# Altium footprint library con-ptr500.PCBLIB: 34 footprints (part 1 of 3)
Each footprint in its own frame and in the unit in brackets; x right, y up, seen from the top. Pads: shape width x height; smd on the part's side, far side on the other; paste and mask are expansions set on the pad; w line width, h text height; cw(c..) or ccw(c..) is an arc to the next point about the centre after c.
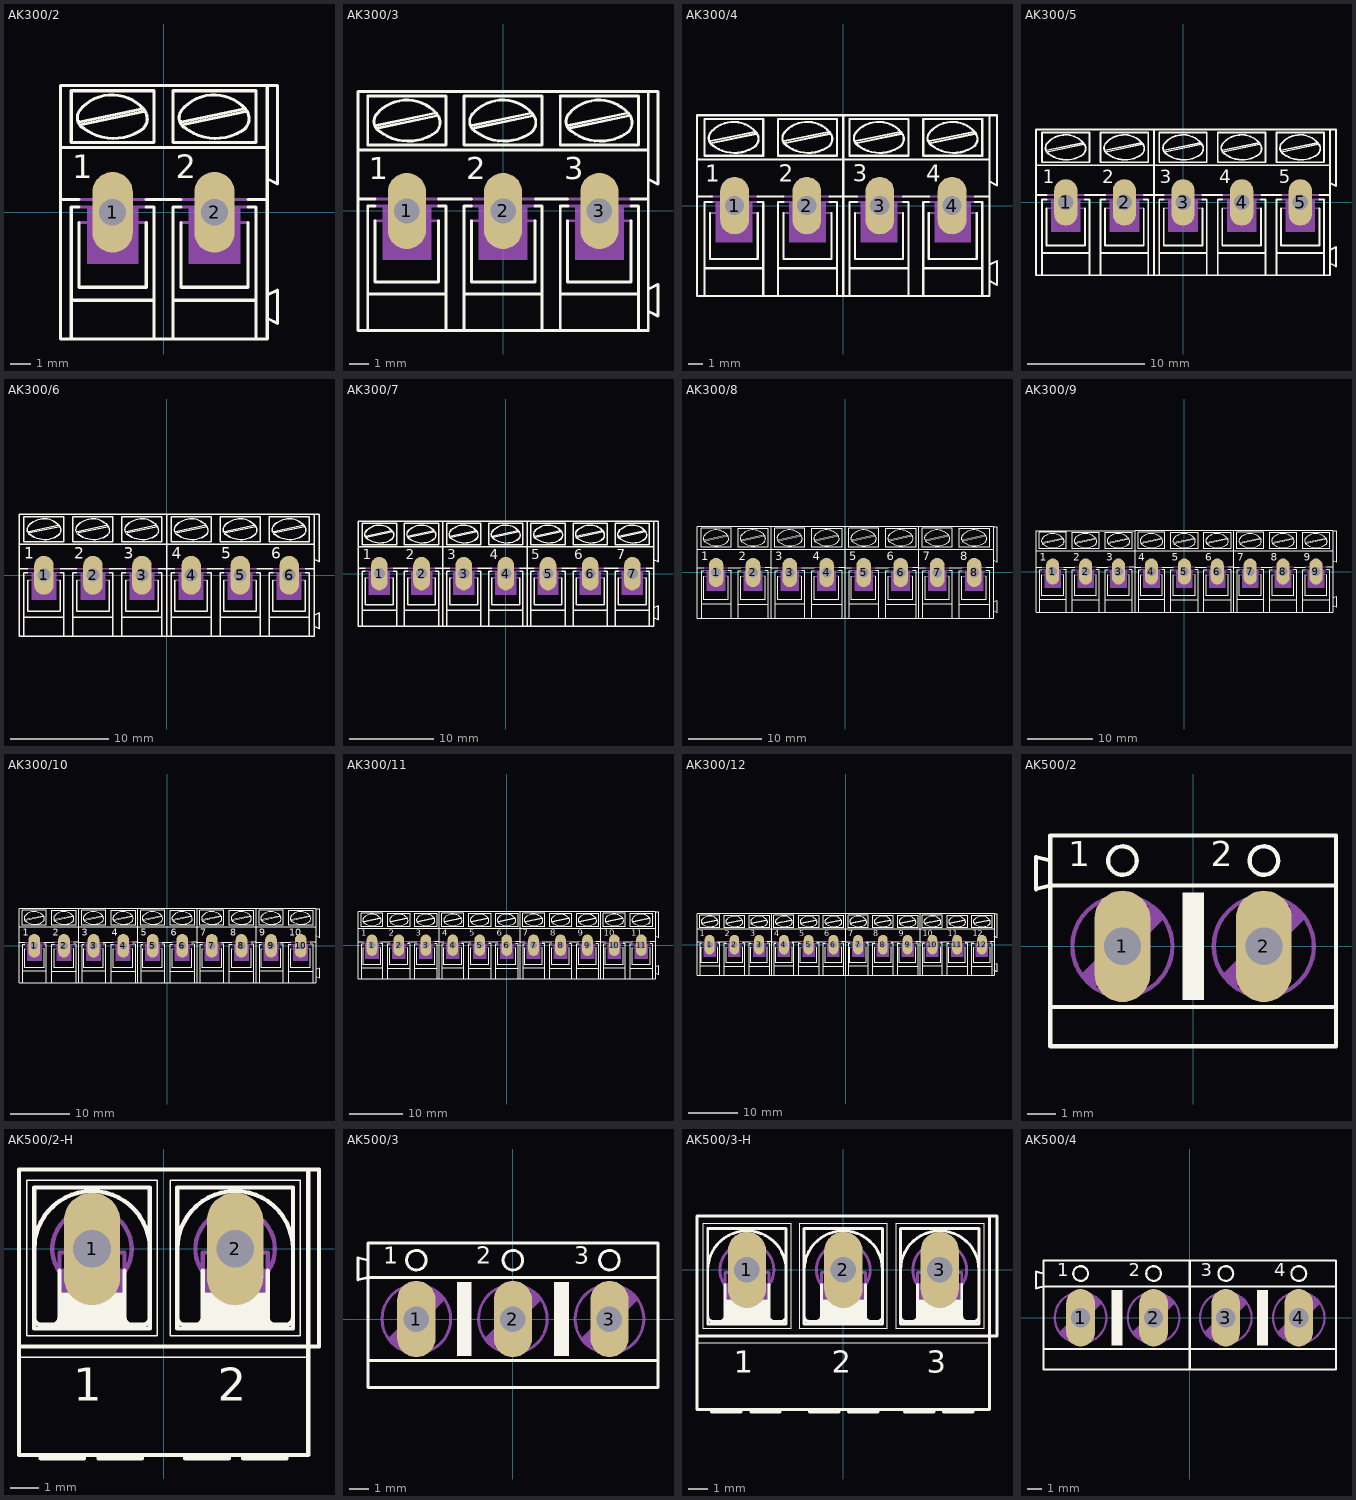
[diagram p0: the footprints below, top view; thin cyan lines are the x and y axes]

## AK300/2 [mil]
pads (2):
  oval 78x156 hole 52: 1(-99,0) 2(98,0)
Top Overlay:
  lines w6: -164,-20 -164,-145 -34,-145 -34,-20 ; -164,10 -179,10 -179,-170 ; -164,25 -200,25 ; -163,175 -43,200 ; -163,197 cw(c-99.99,146) -38.81,199.17 ; -161,199 ccw(c-144,183) -155.34,162.59 ; -158,170 -38,195 ; -157,164 ccw(c-97,239) -39.37,162.16 ; -41.2,160.82 ccw(c-59,181) -39,199 ; -34,10 -19,10 -19,-170 ; -34,25 33,25 ; 33,-20 33,-145 163,-145 163,-20 ; 33,10 18,10 18,-170 ; 34,175 154,200 ; 34,197 cw(c97,146) 158.18,199.16 ; 36,199 ccw(c53,183) 41.66,162.59 ; 39,170 159,195 ; 40,164 ccw(c100,239) 157.63,162.16 ; 155.8,160.82 ccw(c138,181) 158,199 ; 163,10 178,10 178,-170 ; 163,25 200,25 ; -200,25 -200,-245 -179,-245 ; -200,25 -200,125 ; -200,125 200,125 ; -200,125 -200,245 200,245 ; -179,-245 -19,-245 ; -179,-245 -179,-170 ; -179,-170 -19,-170 ; -19,-245 -19,-170 ; -19,-245 18,-245 ; 18,-245 18,-170 ; 18,-245 178,-245 ; 18,-170 178,-170 ; 178,-245 200,-245 200,-205 ; 178,-245 178,-170 ; 200,-205 220,-215 220,-150 200,-160 ; 200,-205 200,-160 ; 200,-160 200,25 ; 200,25 200,65 ; 200,65 220,55 220,245 200,245 ; 200,65 200,125 ; 200,125 200,245 ; -179,135 -19,135 -19,235 -179,235 -179,135 ; 18,135 18,235 178,235 178,135 18,135
  text "1" at -177,50 h77.5
  text "2" at 23,50 h77.5
Mechanical 16:
  rectangle: -149,-100 -49,10
  rectangle: 48,-100 148,10
  lines w6: -164,-20 -149,-20 ; -164,10 -34,10 ; -164,25 -34,25 ; -49,-20 -34,-20 ; 33,-20 48,-20 ; 33,10 163,10 ; 33,25 163,25 ; 148,-20 163,-20

## AK300/3 [mil]
pads (3):
  oval 78x156 hole 52: 1(-197,0) 2(0,0) 3(197,0)
Top Overlay:
  lines w6: -262,-20 -262,-145 -132,-145 -132,-20 ; -262,10 -277,10 -277,-170 ; -262,25 -297,25 ; -260,175 -140,200 ; -260,197 cw(c-196.99,146) -135.81,199.17 ; -258,199 ccw(c-241,183) -252.34,162.59 ; -255,170 -135,195 ; -254,164 ccw(c-194,239) -136.37,162.16 ; -138.2,160.82 ccw(c-156,181) -136,199 ; -132,10 -117,10 -117,-170 ; -132,25 -65,25 ; -65,-20 -65,-145 65,-145 65,-20 ; -65,10 -80,10 -80,-170 ; -64,175 56,200 ; -64,197 cw(c-0.99,146) 60.19,199.17 ; -62,199 ccw(c-45,183) -56.34,162.59 ; -59,170 61,195 ; -58,164 ccw(c2,239) 59.63,162.16 ; 57.8,160.82 ccw(c40,181) 60,199 ; 65,10 80,10 80,-170 ; 66,25 132,25 ; 132,-20 132,-145 262,-145 262,-20 ; 133,10 117,10 117,-170 ; 133,175 253,200 ; 133,197 cw(c196,146) 257.18,199.16 ; 135,199 ccw(c152,183) 140.66,162.59 ; 138,170 258,195 ; 139,164 ccw(c199,239) 256.63,162.16 ; 254.8,160.82 ccw(c237,181) 257,199 ; 262,10 277,10 277,-170 ; 262,25 297,25 ; -297,25 -297,-245 -277,-245 ; -297,25 -297,125 ; -297,125 297,125 ; -297,125 -297,245 297,245 ; -277,-245 -117,-245 ; -277,-245 -277,-170 ; -277,-170 -117,-170 ; -117,-245 -117,-170 ; -117,-245 -80,-245 ; -80,-245 -80,-170 ; -80,-245 80,-245 ; -80,-170 80,-170 ; 80,-245 117,-245 ; 80,-245 80,-170 ; 117,-245 117,-170 ; 117,-245 277,-245 ; 117,-170 277,-170 ; 277,-245 297,-245 297,-205 ; 277,-245 277,-170 ; 297,-205 317,-215 317,-150 297,-160 ; 297,-205 297,-160 ; 297,-160 297,25 ; 297,25 297,65 ; 297,65 317,55 317,245 297,245 ; 297,65 297,125 ; 297,125 297,245 ; -277,135 -117,135 -117,235 -277,235 -277,135 ; -80,135 -80,235 80,235 80,135 -80,135 ; 117,135 117,235 277,235 277,135 117,135
  text "1" at -275,50 h77.5
  text "2" at -75,50 h77.5
  text "3" at 125,50 h77.5
Mechanical 16:
  rectangle: -247,-100 -147,10
  rectangle: -50,-100 50,10
  rectangle: 147,-100 247,10
  lines w6: -262,-20 -247,-20 ; -262,10 -132,10 ; -262,25 -132,25 ; -147,-20 -132,-20 ; -65,-20 -50,-20 ; -65,10 65,10 ; -65,25 65,25 ; 50,-20 65,-20 ; 132,-20 146,-20 ; 133,10 262,10 ; 133,25 262,25 ; 247,-20 262,-20

## AK300/4 [mil]
pads (4):
  oval 78x156 hole 52: 1(-295,0) 2(-99,0) 3(99,0) 4(295,0)
Top Overlay:
  lines w6: -362,-20 -362,-145 -232,-145 -232,-20 ; -361,175 -241,200 ; -361,197 cw(c-297.99,146) -236.81,199.17 ; -359,199 ccw(c-342,183) -353.34,162.59 ; -357,10 -377,10 -377,-170 ; -357,25 -397,25 ; -356,170 -236,195 ; -355,164 ccw(c-295,239) -237.37,162.16 ; -239.2,160.82 ccw(c-257,181) -237,199 ; -232,10 -217,10 -217,-170 ; -232,25 -162,25 ; -162,-20 -162,-145 -32,-145 -32,-20 ; -162,10 -177,10 -177,-170 ; -161,175 -41,200 ; -161,197 cw(c-97.99,146) -36.81,199.17 ; -159,199 ccw(c-142,183) -153.34,162.59 ; -156,170 -36,195 ; -155,164 ccw(c-95,239) -37.37,162.16 ; -39.2,160.82 ccw(c-57,181) -37,199 ; -37,10 -17,10 -17,-170 ; -37,25 0,25 ; 32,-20 32,-145 162,-145 162,-20 ; 33,175 153,200 ; 33,197 cw(c96,146) 157.18,199.16 ; 35,199 ccw(c52,183) 40.66,162.59 ; 37,10 17,10 17,-170 ; 37,25 0,25 ; 38,170 158,195 ; 39,164 ccw(c99,239) 156.63,162.16 ; 154.8,160.82 ccw(c137,181) 157,199 ; 162,10 177,10 177,-170 ; 162,25 232,25 ; 232,-20 232,-145 362,-145 362,-20 ; 232,10 217,10 217,-170 ; 233,175 353,200 ; 233,197 cw(c296,146) 357.18,199.16 ; 235,199 ccw(c252,183) 240.66,162.59 ; 238,170 358,195 ; 239,164 ccw(c299,239) 356.63,162.16 ; 354.8,160.82 ccw(c337,181) 357,199 ; 357,10 377,10 377,-170 ; 357,25 397,25 ; -397,25 -397,-245 -377,-245 ; -397,25 -397,125 ; -397,125 0,125 ; -397,125 -397,245 0,245 ; -377,-245 -217,-245 ; -377,-245 -377,-170 ; -377,-170 -217,-170 ; -217,-245 -217,-170 ; -217,-245 -177,-245 ; -177,-245 -177,-170 ; -177,-245 -17,-245 ; -177,-170 -17,-170 ; -17,-245 0,-245 ; -17,-245 -17,-170 ; 0,-245 0,25 ; 0,-245 17,-245 ; 0,25 0,125 ; 0,125 397,125 ; 0,125 0,245 ; 0,245 397,245 ; 17,-245 177,-245 ; 17,-245 17,-170 ; 17,-170 177,-170 ; 177,-245 177,-170 ; 177,-245 217,-245 ; 217,-245 217,-170 ; 217,-245 377,-245 ; 217,-170 377,-170 ; 377,-245 397,-245 397,-205 ; 377,-245 377,-170 ; 397,-205 417,-215 417,-150 397,-160 ; 397,-205 397,-160 ; 397,-160 397,25 ; 397,25 397,65 ; 397,65 417,55 417,245 397,245 ; 397,65 397,125 ; 397,125 397,245 ; -377,135 -217,135 -217,235 -377,235 -377,135 ; -177,135 -177,235 -17,235 -17,135 -177,135 ; 17,135 177,135 177,235 17,235 17,135 ; 217,135 217,235 377,235 377,135 217,135
  text "1" at -375,50 h77.5
  text "2" at -175,50 h77.5
  text "3" at 25,50 h77.5
  text "4" at 225,50 h77.5
Mechanical 16:
  rectangle: -347,-100 -247,10
  rectangle: -147,-100 -47,10
  rectangle: 47,-100 147,10
  rectangle: 247,-100 347,10
  lines w6: -362,-20 -347,-20 ; -357,10 -232,10 ; -357,25 -232,25 ; -247,-20 -232,-20 ; -162,-20 -147,-20 ; -162,10 -37,10 ; -162,25 -37,25 ; -47,-20 -32,-20 ; 32,-20 47,-20 ; 37,10 162,10 ; 37,25 162,25 ; 147,-20 162,-20 ; 232,-20 247,-20 ; 232,10 357,10 ; 232,25 357,25 ; 347,-20 362,-20

## AK300/5 [mil]
pads (5):
  oval 78x156 hole 52: 1(-394,0) 2(-197,0) 3(0,0) 4(197,0) 5(394,0)
Top Overlay:
  lines w6: -459,-20 -459,-145 -329,-145 -329,-20 ; -459,10 -474,10 -474,-170 ; -459,25 -494,25 ; -458,175 -338,200 ; -458,197 cw(c-394.99,146) -333.81,199.17 ; -456,199 ccw(c-439,183) -450.34,162.59 ; -453,170 -333,195 ; -452,164 ccw(c-392,239) -334.37,162.16 ; -336.2,160.82 ccw(c-354,181) -334,199 ; -329,10 -314,10 -314,-170 ; -329,25 -262,25 ; -262,-20 -262,-145 -132,-145 -132,-20 ; -262,10 -277,10 -277,-170 ; -261,175 -141,200 ; -261,197 cw(c-197.99,146) -136.81,199.17 ; -259,199 ccw(c-242,183) -253.34,162.59 ; -256,170 -136,195 ; -255,164 ccw(c-195,239) -137.37,162.16 ; -139.2,160.82 ccw(c-157,181) -137,199 ; -132,10 -117,10 -117,-170 ; -132,25 -98,25 ; -65,-20 -65,-145 65,-145 65,-20 ; -65,10 -80,10 -80,-170 ; -65,25 -98,25 ; -63,175 57,200 ; -63,197 cw(c0,146) 61.19,199.16 ; -61,199 ccw(c-44,183) -55.34,162.59 ; -58,170 62,195 ; -57,164 ccw(c3,239) 60.63,162.16 ; 58.8,160.82 ccw(c41,181) 61,199 ; 65,10 80,10 80,-170 ; 65,25 132,25 ; 132,-20 132,-145 262,-145 262,-20 ; 132,10 117,10 117,-170 ; 133,175 253,200 ; 133,197 cw(c196,146) 257.18,199.16 ; 135,199 ccw(c152,183) 140.66,162.59 ; 138,170 258,195 ; 139,164 ccw(c199,239) 256.63,162.16 ; 254.8,160.82 ccw(c237,181) 257,199 ; 262,10 277,10 277,-170 ; 263,25 329,25 ; 329,-20 329,-145 459,-145 459,-20 ; 330,10 314,10 314,-170 ; 330,175 450,200 ; 330,197 cw(c393,146) 454.18,199.16 ; 332,199 ccw(c349,183) 337.66,162.59 ; 335,170 455,195 ; 336,164 ccw(c396,239) 453.63,162.16 ; 451.8,160.82 ccw(c434,181) 454,199 ; 459,10 474,10 474,-170 ; 459,25 494,25 ; -494,25 -494,-245 -474,-245 ; -494,25 -494,125 ; -494,125 -98,125 ; -494,125 -494,245 -98,245 ; -474,-245 -314,-245 ; -474,-245 -474,-170 ; -474,-170 -314,-170 ; -314,-245 -314,-170 ; -314,-245 -277,-245 ; -277,-245 -277,-170 ; -277,-245 -117,-245 ; -277,-170 -117,-170 ; -117,-245 -117,-170 ; -117,-245 -98,-245 ; -98,-245 -98,25 ; -98,-245 -80,-245 ; -98,25 -98,125 ; -98,125 -98,245 ; -98,125 494,125 ; -98,245 494,245 ; -80,-245 80,-245 ; -80,-245 -80,-170 ; -80,-170 80,-170 ; 80,-245 80,-170 ; 80,-245 117,-245 ; 117,-245 117,-170 ; 117,-245 277,-245 ; 117,-170 277,-170 ; 277,-245 314,-245 ; 277,-245 277,-170 ; 314,-245 314,-170 ; 314,-245 474,-245 ; 314,-170 474,-170 ; 474,-245 494,-245 494,-205 ; 474,-245 474,-170 ; 494,-205 514,-215 514,-150 494,-160 ; 494,-205 494,-160 ; 494,-160 494,25 ; 494,25 494,65 ; 494,65 514,55 514,245 494,245 ; 494,65 494,125 ; 494,125 494,245 ; -474,135 -314,135 -314,235 -474,235 -474,135 ; -277,135 -277,235 -117,235 -117,135 -277,135 ; -80,135 80,135 80,235 -80,235 -80,135 ; 117,135 117,235 277,235 277,135 117,135 ; 314,135 314,235 474,235 474,135 314,135
  text "1" at -472,50 h77.5
  text "2" at -272,50 h77.5
  text "3" at -78,50 h77.5
  text "4" at 122,50 h77.5
  text "5" at 322,50 h77.5
Mechanical 16:
  rectangle: -444,-100 -344,10
  rectangle: -247,-100 -147,10
  rectangle: -50,-100 50,10
  rectangle: 147,-100 247,10
  rectangle: 344,-100 444,10
  lines w6: -459,-20 -444,-20 ; -459,10 -329,10 ; -459,25 -329,25 ; -344,-20 -329,-20 ; -262,-20 -247,-20 ; -262,10 -132,10 ; -262,25 -132,25 ; -147,-20 -132,-20 ; -65,-20 -50,-20 ; -65,10 65,10 ; -65,25 65,25 ; 50,-20 65,-20 ; 132,-20 147,-20 ; 132,10 262,10 ; 132,25 262,25 ; 247,-20 262,-20 ; 329,-20 343,-20 ; 330,10 459,10 ; 330,25 459,25 ; 444,-20 459,-20

## AK300/6 [mil]
pads (6):
  oval 78x156 hole 52: 1(-493,0) 2(-296,0) 3(-99,0) 4(99,0) 5(296,0) 6(493,0)
Top Overlay:
  drawing of 164 lines, arcs and shapes, not listed
  text "1" at -571,50 h77.5
  text "2" at -371,50 h77.5
  text "3" at -171,50 h77.5
  text "6" at 421,50 h77.5
  text "5" at 221,50 h77.5
  text "4" at 21,50 h77.5
Mechanical 16:
  rectangle: -543,-100 -443,10
  rectangle: -346,-100 -246,10
  rectangle: -149,-100 -49,10
  rectangle: 49,-100 149,10
  rectangle: 246,-100 346,10
  rectangle: 443,-100 543,10
  lines w6: -558,-20 -543,-20 ; -558,10 -428,10 ; -558,25 -428,25 ; -443,-20 -428,-20 ; -361,-20 -346,-20 ; -361,10 -231,10 ; -361,25 -231,25 ; -246,-20 -231,-20 ; -164,-20 -150,-20 ; -163,10 -34,10 ; -163,25 -34,25 ; -49,-20 -34,-20 ; 34,-20 49,-20 ; 34,10 164,10 ; 34,25 164,25 ; 149,-20 164,-20 ; 231,-20 246,-20 ; 231,10 361,10 ; 231,25 361,25 ; 346,-20 361,-20 ; 428,-20 442,-20 ; 429,10 558,10 ; 429,25 558,25 ; 543,-20 558,-20

## AK300/7 [mil]
pads (7):
  oval 78x156 hole 52: 1(-591,0) 2(-394,0) 3(-197,0) 4(0,0) 5(197,0) 6(394,0) 7(591,0)
Top Overlay:
  drawing of 194 lines, arcs and shapes, not listed
  text "1" at -669,50 h77.5
  text "2" at -469,50 h77.5
  text "3" at -275,50 h77.5
  text "4" at -75,50 h77.5
  text "5" at 119,50 h77.5
  text "6" at 319,50 h77.5
  text "7" at 519,50 h77.5
Mechanical 16:
  rectangle: 147,-100 247,10
  rectangle: 344,-100 444,10
  rectangle: 541,-100 641,10
  rectangle: -247,-100 -147,10
  rectangle: -50,-100 50,10
  rectangle: -641,-100 -541,10
  rectangle: -444,-100 -344,10
  lines w6: -656,-20 -641,-20 ; -656,10 -526,10 ; -656,25 -526,25 ; -541,-20 -526,-20 ; -459,-20 -444,-20 ; -459,10 -329,10 ; -459,25 -329,25 ; -344,-20 -329,-20 ; -262,-20 -247,-20 ; -262,10 -132,10 ; -262,25 -132,25 ; -147,-20 -132,-20 ; -65,-20 -50,-20 ; -65,10 65,10 ; -65,25 65,25 ; 50,-20 65,-20 ; 132,-20 147,-20 ; 132,10 262,10 ; 132,25 262,25 ; 247,-20 262,-20 ; 329,-20 344,-20 ; 329,10 459,10 ; 329,25 459,25 ; 444,-20 459,-20 ; 526,-20 540,-20 ; 527,10 656,10 ; 527,25 656,25 ; 641,-20 656,-20

## AK300/8 [mil]
pads (8):
  oval 78x156 hole 52: 1(-689,0) 2(-492,0) 3(-296,0) 4(-99,0) 5(99,0) 6(296,0) 7(492,0) 8(689,0)
Top Overlay:
  drawing of 224 lines, arcs and shapes, not listed
  text "1" at -767,50 h77.5
  text "2" at -567,50 h77.5
  text "3" at -374,50 h77.5
  text "4" at -174,50 h77.5
  text "5" at 21,50 h77.5
  text "6" at 221,50 h77.5
  text "7" at 414,50 h77.5
  text "8" at 614,50 h77.5
Mechanical 16:
  rectangle: -739,-100 -639,10
  rectangle: -542,-100 -442,10
  rectangle: -346,-100 -246,10
  rectangle: -149,-100 -49,10
  rectangle: 49,-100 149,10
  rectangle: 246,-100 346,10
  rectangle: 442,-100 542,10
  rectangle: 639,-100 739,10
  lines w6: -754,-20 -739,-20 ; -754,10 -624,10 ; -754,25 -624,25 ; -639,-20 -624,-20 ; -557,-20 -542,-20 ; -557,10 -427,10 ; -557,25 -427,25 ; -442,-20 -427,-20 ; -361,-20 -346,-20 ; -361,10 -231,10 ; -361,25 -231,25 ; -246,-20 -231,-20 ; -164,-20 -149,-20 ; -164,10 -34,10 ; -164,25 -34,25 ; -49,-20 -34,-20 ; 34,-20 49,-20 ; 34,10 164,10 ; 34,25 164,25 ; 149,-20 164,-20 ; 231,-20 246,-20 ; 231,10 361,10 ; 231,25 361,25 ; 346,-20 361,-20 ; 427,-20 442,-20 ; 427,10 557,10 ; 427,25 557,25 ; 542,-20 557,-20 ; 624,-20 639,-20 ; 624,10 754,10 ; 624,25 754,25 ; 739,-20 754,-20

## AK300/9 [mil]
pads (9):
  oval 78x156 hole 52: 1(-788,0) 2(-591,0) 3(-394,0) 4(-197,0) 5(0,0) 6(197,0) 7(394,0) 8(591,0) 9(788,0)
Top Overlay:
  drawing of 240 lines, arcs and shapes, not listed
  text "1" at -866,50 h77.5
  text "2" at -666,50 h77.5
  text "3" at -466,50 h77.5
  text "9" at 716,50 h77.5
  text "8" at 516,50 h77.5
  text "7" at 316,50 h77.5
  text "6" at 125,50 h77.5
  text "5" at -75,50 h77.5
  text "4" at -275,50 h77.5
Mechanical 16:
  rectangle: -838,-100 -738,10
  rectangle: -641,-100 -541,10
  rectangle: -444,-100 -344,10
  rectangle: -247,-100 -147,10
  rectangle: -50,-100 50,10
  rectangle: 147,-100 247,10
  rectangle: 344,-100 444,10
  rectangle: 541,-100 641,10
  rectangle: 738,-100 838,10
  lines w6: -853,-20 -838,-20 ; -853,10 -723,10 ; -853,25 -723,25 ; -738,-20 -723,-20 ; -656,-20 -641,-20 ; -656,10 -526,10 ; -656,25 -526,25 ; -541,-20 -526,-20 ; -459,-20 -445,-20 ; -458,10 -329,10 ; -458,25 -329,25 ; -344,-20 -329,-20 ; -262,-20 -247,-20 ; -262,10 -132,10 ; -262,25 -132,25 ; -147,-20 -132,-20 ; -65,-20 -50,-20 ; -65,10 65,10 ; -65,25 65,25 ; 50,-20 65,-20 ; 132,-20 146,-20 ; 133,10 262,10 ; 133,25 262,25 ; 247,-20 262,-20 ; 329,-20 344,-20 ; 329,10 459,10 ; 329,25 459,25 ; 444,-20 459,-20 ; 526,-20 541,-20 ; 526,10 656,10 ; 526,25 656,25 ; 641,-20 656,-20 ; 723,-20 737,-20 ; 724,10 853,10 ; 724,25 853,25 ; 838,-20 853,-20

## AK300/10 [mil]
pads (10):
  oval 78x156 hole 52: 1(-886,0) 2(-689,0) 3(-492,0) 4(-295,0) 5(-99,0) 6(98,0) 7(295,0) 8(492,0) 9(689,0) 10(886,0)
Top Overlay:
  drawing of 277 lines, arcs and shapes, not listed
  text "1" at -964,50 h77.5
  text "2" at -764,50 h77.5
  text "3" at -570,50 h77.5
  text "4" at -370,50 h77.5
  text "5" at -177,50 h77.5
  text "6" at 23,50 h77.5
  text "7" at 217,50 h77.5
  text "8" at 417,50 h77.5
  text "9" at 611,50 h77.5
  text "10" at 811,50 h77.5
Mechanical 16:
  rectangle: -936,-100 -836,10
  rectangle: -739,-100 -639,10
  rectangle: -542,-100 -442,10
  rectangle: -345,-100 -245,10
  rectangle: -149,-100 -49,10
  rectangle: 48,-100 148,10
  rectangle: 245,-100 345,10
  rectangle: 442,-100 542,10
  rectangle: 639,-100 739,10
  rectangle: 836,-100 936,10
  lines w6: -951,-20 -936,-20 ; -951,10 -821,10 ; -951,25 -821,25 ; -836,-20 -821,-20 ; -754,-20 -739,-20 ; -754,10 -624,10 ; -754,25 -624,25 ; -639,-20 -624,-20 ; -557,-20 -542,-20 ; -557,10 -427,10 ; -557,25 -427,25 ; -442,-20 -427,-20 ; -360,-20 -345,-20 ; -360,10 -230,10 ; -360,25 -230,25 ; -245,-20 -230,-20 ; -164,-20 -149,-20 ; -164,10 -34,10 ; -164,25 -34,25 ; -49,-20 -34,-20 ; 33,-20 48,-20 ; 33,10 163,10 ; 33,25 163,25 ; 148,-20 163,-20 ; 230,-20 245,-20 ; 230,10 360,10 ; 230,25 360,25 ; 345,-20 360,-20 ; 427,-20 442,-20 ; 427,10 557,10 ; 427,25 557,25 ; 542,-20 557,-20 ; 624,-20 639,-20 ; 624,10 754,10 ; 624,25 754,25 ; 739,-20 754,-20 ; 821,-20 836,-20 ; 821,10 951,10 ; 821,25 951,25 ; 936,-20 951,-20

## AK300/11 [mil]
pads (11):
  oval 78x156 hole 52: 1(-985,0) 2(-788,0) 3(-591,0) 4(-394,0) 5(-197,0) 6(0,0) 7(197,0) 8(394,0) 9(591,0) 10(788,0) 11(985,0)
Top Overlay:
  drawing of 293 lines, arcs and shapes, not listed
  text "1" at -1063,50 h77.5
  text "2" at -863,50 h77.5
  text "3" at -663,50 h77.5
  text "4" at -472,50 h77.5
  text "5" at -272,50 h77.5
  text "6" at -72,50 h77.5
  text "7" at 119,50 h77.5
  text "8" at 319,50 h77.5
  text "9" at 519,50 h77.5
  text "10" at 710,50 h77.5
  text "11" at 910,50 h77.5
Mechanical 16:
  rectangle: -1035,-100 -935,10
  rectangle: -838,-100 -738,10
  rectangle: -641,-100 -541,10
  rectangle: -444,-100 -344,10
  rectangle: -247,-100 -147,10
  rectangle: -50,-100 50,10
  rectangle: 147,-100 247,10
  rectangle: 344,-100 444,10
  rectangle: 541,-100 641,10
  rectangle: 738,-100 838,10
  rectangle: 935,-100 1035,10
  lines w6: -1050,-20 -1035,-20 ; -1050,10 -920,10 ; -1050,25 -920,25 ; -935,-20 -920,-20 ; -853,-20 -838,-20 ; -853,10 -723,10 ; -853,25 -723,25 ; -738,-20 -723,-20 ; -656,-20 -642,-20 ; -655,10 -526,10 ; -655,25 -526,25 ; -541,-20 -526,-20 ; -459,-20 -444,-20 ; -459,10 -329,10 ; -459,25 -329,25 ; -344,-20 -329,-20 ; -262,-20 -247,-20 ; -262,10 -132,10 ; -262,25 -132,25 ; -147,-20 -132,-20 ; -65,-20 -51,-20 ; -64,10 65,10 ; -64,25 65,25 ; 50,-20 65,-20 ; 132,-20 147,-20 ; 132,10 262,10 ; 132,25 262,25 ; 247,-20 262,-20 ; 329,-20 344,-20 ; 329,10 459,10 ; 329,25 459,25 ; 444,-20 459,-20 ; 526,-20 540,-20 ; 527,10 656,10 ; 527,25 656,25 ; 641,-20 656,-20 ; 723,-20 738,-20 ; 723,10 853,10 ; 723,25 853,25 ; 838,-20 853,-20 ; 920,-20 935,-20 ; 920,10 1050,10 ; 920,25 1050,25 ; 1035,-20 1050,-20

## AK300/12 [mil]
pads (12):
  oval 78x156 hole 52: 1(-1083,0) 2(-886,0) 3(-689,0) 4(-492,0) 5(-295,0) 6(-98,0) 7(98,0) 8(295,0) 9(492,0) 10(689,0) 11(886,0) 12(1083,0)
Top Overlay:
  drawing of 316 lines, arcs and shapes, not listed
  text "1" at -1161,50 h77.5
  text "2" at -961,50 h77.5
  text "3" at -761,50 h77.5
  text "4" at -570,50 h77.5
  text "5" at -370,50 h77.5
  text "6" at -170,50 h77.5
  text "7" at 20,50 h77.5
  text "8" at 220,50 h77.5
  text "9" at 420,50 h77.5
  text "10" at 611,50 h77.5
  text "11" at 811,50 h77.5
  text "12" at 1011,50 h77.5
Mechanical 16:
  rectangle: -1133,-100 -1033,10
  rectangle: -936,-100 -836,10
  rectangle: -739,-100 -639,10
  rectangle: -542,-100 -442,10
  rectangle: -345,-100 -245,10
  rectangle: -148,-100 -48,10
  rectangle: 48,-100 148,10
  rectangle: 245,-100 345,10
  rectangle: 442,-100 542,10
  rectangle: 639,-100 739,10
  rectangle: 836,-100 936,10
  rectangle: 1033,-100 1133,10
  lines w6: -1148,-20 -1133,-20 ; -1148,10 -1018,10 ; -1148,25 -1018,25 ; -1033,-20 -1018,-20 ; -951,-20 -936,-20 ; -951,10 -821,10 ; -951,25 -821,25 ; -836,-20 -821,-20 ; -754,-20 -740,-20 ; -753,10 -624,10 ; -753,25 -624,25 ; -639,-20 -624,-20 ; -557,-20 -542,-20 ; -557,10 -427,10 ; -557,25 -427,25 ; -442,-20 -427,-20 ; -360,-20 -345,-20 ; -360,10 -230,10 ; -360,25 -230,25 ; -245,-20 -230,-20 ; -163,-20 -149,-20 ; -162,10 -33,10 ; -162,25 -33,25 ; -48,-20 -33,-20 ; 33,-20 48,-20 ; 33,10 163,10 ; 33,25 163,25 ; 148,-20 163,-20 ; 230,-20 245,-20 ; 230,10 360,10 ; 230,25 360,25 ; 345,-20 360,-20 ; 427,-20 441,-20 ; 428,10 557,10 ; 428,25 557,25 ; 542,-20 557,-20 ; 624,-20 639,-20 ; 624,10 754,10 ; 624,25 754,25 ; 739,-20 754,-20 ; 821,-20 836,-20 ; 821,10 951,10 ; 821,25 951,25 ; 936,-20 951,-20 ; 1018,-20 1032,-20 ; 1019,10 1148,10 ; 1019,25 1148,25 ; 1133,-20 1148,-20

## AK500/2 [mil]
pads (2):
  oval 78x156 hole 52: 1(-99,0) 2(99,0)
Top Overlay:
  circle w6: c99,120 r20
  circle w6: c-99,120 r20
  rectangle: -15,-75 15,75
  lines w6: -200,-85 -200,-140 200,-140 200,-85 ; -200,-85 200,-85 ; -200,-85 -200,85 ; -200,85 -220,80 -220,125 -200,120 ; -200,85 -200,120 ; -200,85 200,85 ; -200,120 -200,155 200,155 200,85 ; 200,-85 200,85
  text "1" at -175,100 h60.45
  text "2" at 25,100 h60.45
Mechanical 16:
  circle w6: c99,0 r70
  circle w6: c-99,0 r70
  lines w6: -154,-40 -59,55 -44,40 -139,-55 -154,-40 ; 44,-40 139,55 154,40 59,-55 44,-40
  lines w24: -139,-40 -59,40 ; 59,-40 139,40

## AK500/2-H [mil]
pads (2):
  oval 78x156 hole 52: 1(-99,0) 2(99,0)
Top Overlay:
  rectangle: -144,-105 -54,-60
  rectangle: 54,-105 144,-60
  lines w2: -200,-150 200,-150 ; -189,-120 -189,95 -9,95 -9,-120 -189,-120 ; 9,-120 189,-120 189,95 9,95 9,-120
  lines w6: -179,-95 ccw(c-169,-95) -169,-105 -29,-105 ccw(c-29,-95) -19,-95 ; -179,0 cw(c-99,0) -19,0 ; -154,-105 ccw(c-154,-95) -144,-95 -144,-30 ; -54,-30 -54,-95 ccw(c-44,-95) -44,-105 ; 19,-95 ccw(c29,-95) 29,-105 169,-105 ccw(c169,-95) 179,-95 ; 19,0 cw(c99,0) 179,0 ; 44,-105 ccw(c44,-95) 54,-95 54,-30 ; 144,-30 144,-95 ccw(c154,-95) 154,-105 ; -200,-135 200,-135 ; -200,-135 -200,110 200,110 ; -200,-135 -200,-150 -200,-285 -170,-285 ; -170,-285 -170,-290 -110,-290 -110,-285 ; -170,-285 -110,-285 ; -110,-285 -90,-285 ; -90,-285 -30,-285 ; -90,-285 -90,-290 -30,-290 -30,-285 ; -30,-285 30,-285 ; 30,-285 30,-290 90,-290 90,-285 ; 30,-285 90,-285 ; 90,-285 110,-285 ; 110,-285 110,-290 170,-290 170,-285 ; 110,-285 170,-285 ; 170,-285 200,-285 200,-150 200,-135 ; 200,-135 200,110 ; 200,-135 215,-135 215,110 200,110 ; -179,-110 -19,-110 -19,85 -179,85 -179,-110 ; 19,-110 19,85 179,85 179,-110 19,-110
  text "1" at -125,-225 h77.5
  text "2" at 75,-225 h77.5
Mechanical 16:
  circle w6: c-99,0 r55
  circle w6: c99,0 r55
  rectangle: -144,-60 -54,-30
  rectangle: 54,-60 144,-30
  lines w6: -144,-30 -144,-5 -54,-5 -54,-30 -144,-30 ; 54,-30 54,-5 144,-5 144,-30 54,-30

## AK500/3 [mil]
pads (3):
  oval 78x156 hole 52: 1(-197,0) 2(0,0) 3(197,0)
Top Overlay:
  circle w6: c0,120 r20
  circle w6: c-197,120 r20
  circle w6: c197,120 r20
  rectangle: -114,-75 -84,75
  rectangle: 84,-75 114,75
  lines w6: -296,-85 -296,-140 296,-140 296,-85 ; -296,-85 296,-85 ; -296,-85 -296,85 ; -296,85 -316,80 -316,125 -296,120 ; -296,85 -296,120 ; -296,85 296,85 ; -296,120 -296,155 296,155 296,85 ; 296,-85 296,85
  text "1" at -265,100 h60.45
  text "2" at -75,100 h60.45
  text "3" at 125,100 h60.45
Mechanical 16:
  circle w6: c0,0 r70
  circle w6: c-197,0 r70
  circle w6: c197,0 r70
  lines w6: -252,-40 -157,55 -142,40 -237,-55 -252,-40 ; -55,-40 40,55 55,40 -40,-55 -55,-40 ; 142,-40 237,55 252,40 157,-55 142,-40
  lines w24: -237,-40 -157,40 ; -40,-40 40,40 ; 157,-40 237,40

## AK500/3-H [mil]
pads (3):
  oval 78x156 hole 52: 1(-197,0) 2(0,0) 3(197,0)
Top Overlay:
  rectangle: -242,-105 -152,-60
  rectangle: -45,-105 45,-60
  rectangle: 152,-105 242,-60
  lines w2: -299,-150 299,-150 ; -287,-120 -287,95 -107,95 -107,-120 -287,-120 ; -90,-120 90,-120 90,95 -90,95 -90,-120 ; 107,-120 107,95 287,95 287,-120 107,-120
  lines w6: -277,-95 ccw(c-267,-95) -267,-105 -127,-105 ccw(c-127,-95) -117,-95 ; -277,0 cw(c-197,0) -117,0 ; -252,-105 ccw(c-252,-95) -242,-95 -242,-30 ; -152,-30 -152,-95 ccw(c-142,-95) -142,-105 ; -80,-95 ccw(c-70,-95) -70,-105 70,-105 ccw(c70,-95) 80,-95 ; -80,0 cw(c0,0) 80,0 ; -55,-105 ccw(c-55,-95) -45,-95 -45,-30 ; 45,-30 45,-95 ccw(c55,-95) 55,-105 ; 117,-95 ccw(c127,-95) 127,-105 267,-105 ccw(c267,-95) 277,-95 ; 117,0 cw(c197,0) 277,0 ; 142,-105 ccw(c142,-95) 152,-95 152,-30 ; 242,-30 242,-95 ccw(c252,-95) 252,-105 ; -299,-135 299,-135 ; -299,-135 -299,110 299,110 ; -299,-135 -299,-150 -299,-285 -269,-285 ; -269,-285 -269,-290 -209,-290 -209,-285 ; -269,-285 -209,-285 ; -209,-285 -189,-285 ; -189,-285 -129,-285 ; -189,-285 -189,-290 -129,-290 -129,-285 ; -129,-285 -69,-285 ; -69,-285 -69,-290 -9,-290 -9,-285 ; -69,-285 -9,-285 ; -9,-285 11,-285 ; 11,-285 11,-290 71,-290 71,-285 ; 11,-285 71,-285 ; 71,-285 125,-285 ; 125,-285 125,-290 185,-290 185,-285 ; 125,-285 185,-285 ; 185,-285 205,-285 ; 205,-285 205,-290 265,-290 265,-285 ; 205,-285 265,-285 ; 265,-285 299,-285 299,-150 299,-135 ; 299,-135 299,110 ; 299,-135 314,-135 314,110 299,110 ; -277,-110 -117,-110 -117,85 -277,85 -277,-110 ; -80,-110 -80,85 80,85 80,-110 -80,-110 ; 117,-110 277,-110 277,85 117,85 117,-110
  text "1" at -224,-225 h77.5
  text "2" at -24,-225 h77.5
  text "3" at 170,-225 h77.5
Mechanical 16:
  circle w6: c-197,0 r55
  circle w6: c0,0 r55
  circle w6: c197,0 r55
  rectangle: -242,-60 -152,-30
  rectangle: -45,-60 45,-30
  rectangle: 152,-60 242,-30
  lines w6: -242,-30 -242,-5 -152,-5 -152,-30 -242,-30 ; -45,-30 -45,-5 45,-5 45,-30 -45,-30 ; 152,-30 152,-5 242,-5 242,-30 152,-30

## AK500/4 [mil]
pads (4):
  oval 78x156 hole 52: 1(-296,0) 2(-98,0) 3(98,0) 4(296,0)
Top Overlay:
  circle w6: c-98,120 r20
  circle w6: c-296,120 r20
  circle w6: c296,120 r20
  circle w6: c98,120 r20
  rectangle: -212,-75 -182,75
  rectangle: 182,-75 212,75
  lines w6: -397,-85 -397,-140 0,-140 ; -397,-85 0,-85 ; -397,-85 -397,85 ; -397,85 -417,80 -417,125 -397,120 ; -397,85 -397,120 ; -397,85 0,85 ; -397,120 -397,155 0,155 ; 0,-140 0,-85 ; 0,-140 397,-140 397,-85 ; 0,-85 397,-85 ; 0,-85 0,85 ; 0,85 0,155 ; 0,85 397,85 ; 0,155 397,155 397,85 ; 397,-85 397,85
  text "1" at -360,100 h60.45
  text "2" at -165,100 h60.45
  text "3" at 30,100 h60.45
  text "4" at 230,100 h60.45
Mechanical 16:
  circle w6: c-98,0 r70
  circle w6: c-296,0 r70
  circle w6: c296,0 r70
  circle w6: c98,0 r70
  lines w6: -351,-40 -256,55 -241,40 -336,-55 -351,-40 ; -153,-40 -58,55 -43,40 -138,-55 -153,-40 ; 43,-40 138,55 153,40 58,-55 43,-40 ; 241,-40 336,55 351,40 256,-55 241,-40
  lines w24: -336,-40 -256,40 ; -138,-40 -58,40 ; 58,-40 138,40 ; 256,-40 336,40